# Altium footprint library Cap_Taiyo_Yuden_EMK212B7475KG-T_4_7uF.PcbLib: 1 footprints
Each footprint in its own frame and in the unit in brackets; x right, y up, seen from the top. Pads: shape width x height; smd on the part's side, far side on the other; paste and mask are expansions set on the pad; w line width, h text height; cw(c..) or ccw(c..) is an arc to the next point about the centre after c.
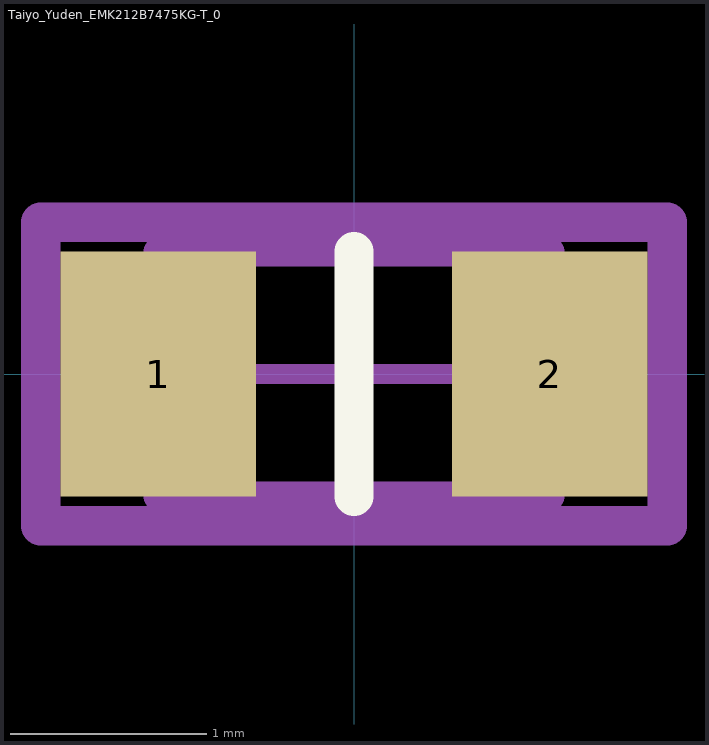
[diagram p0: the footprint, top view; thin cyan lines are the x and y axes]

## Taiyo_Yuden_EMK212B7475KG-T_0 [mm]
pads (2):
  rect 1x1.25 smd paste+0 mask+0: 1(-1,0) 2(1,0)
Top Overlay:
  lines w0.2: 0,-0.625 0,0.625
Mechanical 10:
  lines w0.2: -1.6,-0.775 -1.6,0.775 1.6,0.775 1.6,-0.775 -1.6,-0.775
  text ".Designator" at 0,0 h1
Mechanical 12:
  lines w0.15: -1,-0.625 -1,0.625 1,0.625 1,-0.625 -1,-0.625
Mechanical 15:
  lines w0.1: -0.5,0 0.5,0 ; 0,-0.5 0,0.5
  lines w0.2: -1.6,-0.775 -1.6,0.775 1.6,0.775 1.6,-0.775 -1.6,-0.775
3D body "cap_EMK212B7105KG-T.step": height 1.35, standoff 0, extent -1.054,-0.673 1.054,0.673
3D body: height 3.3, standoff -2.6, extent 0,0 0,0